# Altium footprint library ZLM.PcbLib: 58 footprints (part 4 of 4)
Each footprint in its own frame and in the unit in brackets; x right, y up, seen from the top. Pads: shape width x height; smd on the part's side, far side on the other; paste and mask are expansions set on the pad; w line width, h text height; cw(c..) or ccw(c..) is an arc to the next point about the centre after c.
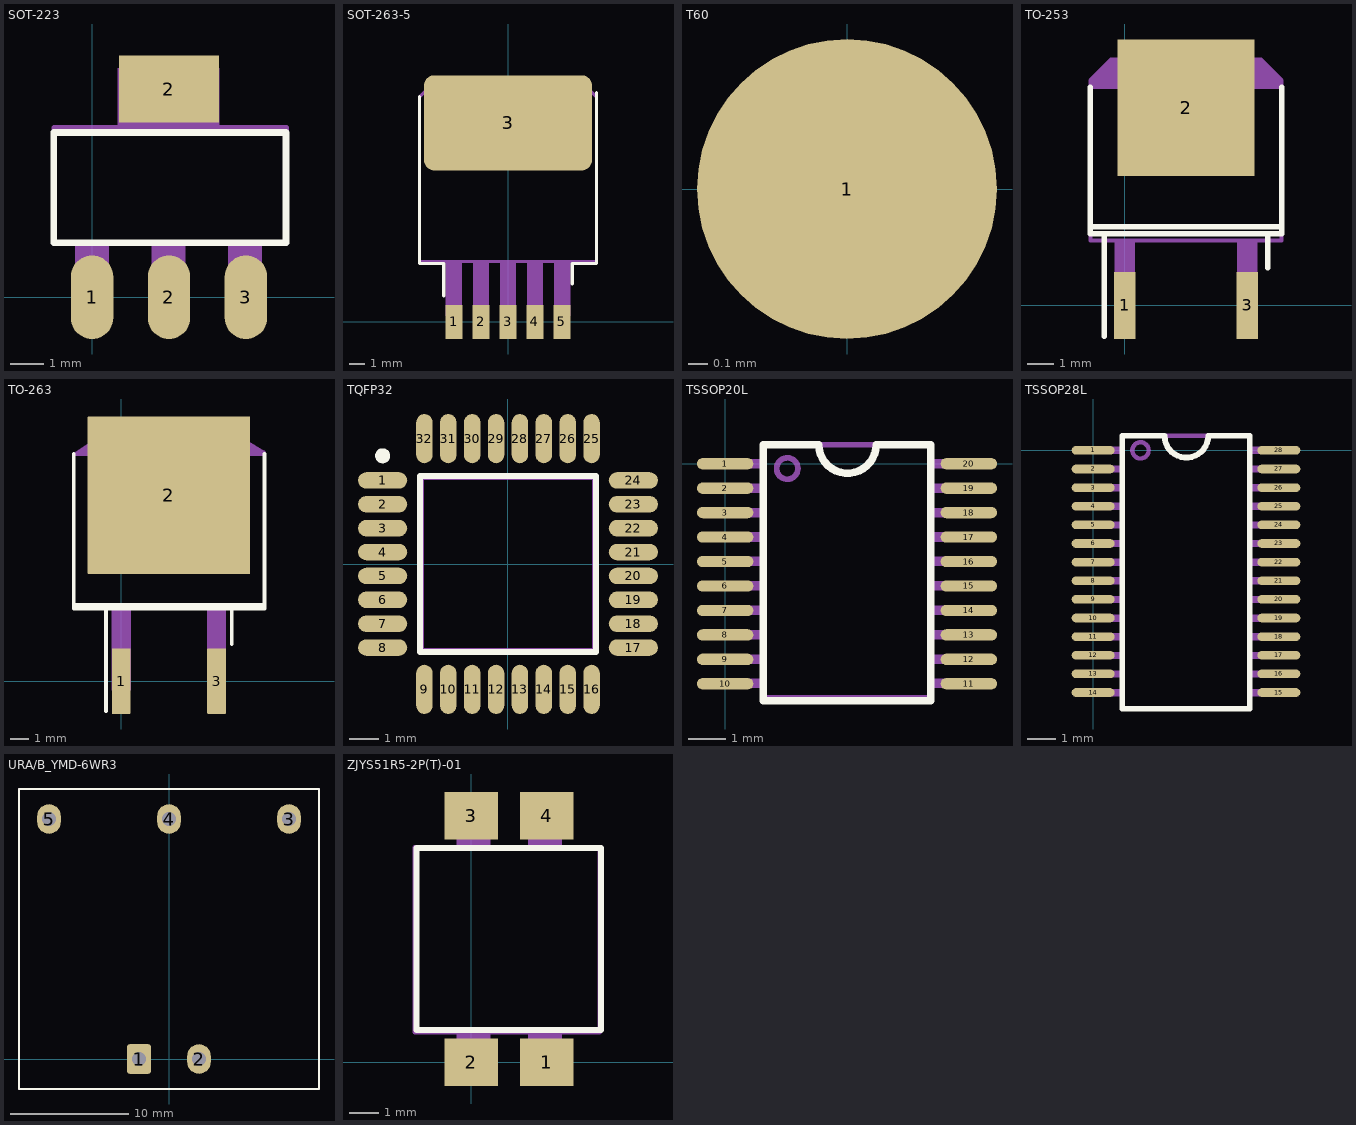
[diagram p3: the footprints below, top view; thin cyan lines are the x and y axes]

## SOT-223 [mm]
pads (4):
  oval 1.27x2.5 smd: 1(0,0) 2(2.3,0) 3(4.6,0)
  rect 3x2 smd: 2(2.3,6.223)
Top Overlay:
  lines w0.203: -1.15,1.626 5.8,1.626 5.8,4.928 -1.15,4.928 -1.15,1.626
Mechanical 5:
  rectangle: 0.762,5.08 3.81,6.858
  rectangle: 4.064,-0.254 5.08,1.626
  rectangle: 1.778,-0.254 2.794,1.626
  rectangle: -0.508,-0.254 0.508,1.626
  lines w0.152: -1.143,1.651 -1.143,5.08 5.817,5.08 5.817,1.651 5.791,1.626 -1.118,1.626 -1.143,1.651
  text ".Designator" at -0.508,2.794 h0.76

## SOT-263-5 [mm]
height 0.55
pads (6):
  rect 1.07x2.16 smd: 1(-3.4,0) 2(-1.7,0) 3(0,0) 4(1.7,0) 5(3.4,0)
  rrect20% 10.6x6 smd: 3(0,12.572)
Top Overlay:
  lines w0.203: -5.588,14.224 -5.588,3.683 -4.064,3.683 -4.064,1.651 ; 4.064,2.413 4.064,3.683 5.588,3.683 5.588,14.478
Mechanical 5:
  rectangle: -3.937,0.381 -2.921,3.81
  rectangle: -2.222,0.381 -1.206,3.81
  rectangle: -0.508,0.381 0.508,3.81
  rectangle: 1.206,0.381 2.222,3.81
  rectangle: 2.921,0.381 3.937,3.81
  lines w0.203: -5.588,3.81 -5.588,14.224 -4.572,15.24 4.572,15.24 5.588,14.224 5.588,3.81 -5.588,3.81
  text ".Designator" at -4.064,7.874 h1.52

## T60 [mil]
pads (1):
  round 60 smd: 1(0,0)

## TO-253 [mm]
pads (3):
  rect 0.8x2.5 smd: 1(0,0) 3(4.572,0)
  rect 5.1x5.08 smd: 2(2.286,7.366)
Top Overlay:
  lines w0.203: -1.27,2.921 5.842,2.921 ; -1.27,8.128 -1.27,2.667 5.842,2.667 5.842,8.128 ; -0.762,-1.143 -0.762,2.667 ; 5.334,1.397 5.334,2.667
Mechanical 5:
  rectangle: 4.191,-0.381 4.953,2.413
  rectangle: -0.381,-0.381 0.381,2.413
  region: -1.27,8.128 -1.27,8.382 -0.508,9.144 5.08,9.144 5.842,8.382 5.842,8.128
  lines w0.152: -1.27,8.128 -1.27,2.413 5.842,2.413 5.842,8.128 ; -1.27,8.128 5.842,8.128 ; -1.27,8.128 -1.27,8.382 -0.508,9.144 5.08,9.144 5.842,8.382 5.842,8.128
  text ".Designator" at -0.254,5.461 h0.76

## TO-263 [mm]
pads (3):
  rrect10% 1x3.5 smd: 1(0,0) 3(5.08,0)
  rrect1% 8.65x8.4 smd paste-4.2: 2(2.54,9.9)
Top Overlay:
  lines w0.203: -2.531,4.047 7.629,4.047 ; -2.531,12.1 -2.531,3.869 ; -0.81,-1.6 -0.81,3.869 -2.531,3.869 ; 5.89,1.975 5.89,3.869 7.611,3.869 ; 7.629,12.1 7.629,3.869 -2.531,3.869
Top Paste:
  region: 3.34,9.8 3.34,8.72 4.3,8.72 4.3,9.8
  region: 3.34,8.52 3.34,7.44 4.3,7.44 4.3,8.52
  region: 3.34,7.24 3.34,6.16 4.3,6.16 4.3,7.24
  region: 4.3,11.28 4.3,12.36 3.34,12.36 3.34,11.28
  region: 4.3,10 4.3,11.08 3.34,11.08 3.34,10
  region: 5.58,10 5.58,11.08 4.62,11.08 4.62,10
  region: 5.58,11.28 5.58,12.36 4.62,12.36 4.62,11.28
  region: 4.62,7.24 4.62,6.16 5.58,6.16 5.58,7.24
  region: 4.62,8.52 4.62,7.44 5.58,7.44 5.58,8.52
  region: 4.62,9.8 4.62,8.72 5.58,8.72 5.58,9.8
  region: 5.9,9.8 5.9,8.72 6.86,8.72 6.86,9.8
  region: 5.9,8.52 5.9,7.44 6.86,7.44 6.86,8.52
  region: 5.9,7.24 5.9,6.16 6.86,6.16 6.86,7.24
  region: 6.86,11.28 6.86,12.36 5.9,12.36 5.9,11.28
  region: 6.86,10 6.86,11.08 5.9,11.08 5.9,10
  region: -0.82,10 -0.82,11.08 -1.78,11.08 -1.78,10
  region: -0.82,11.28 -0.82,12.36 -1.78,12.36 -1.78,11.28
  region: -1.78,7.24 -1.78,6.16 -0.82,6.16 -0.82,7.24
  region: -1.78,8.52 -1.78,7.44 -0.82,7.44 -0.82,8.52
  region: -1.78,9.8 -1.78,8.72 -0.82,8.72 -0.82,9.8
  region: -0.5,9.8 -0.5,8.72 0.46,8.72 0.46,9.8
  region: -0.5,8.52 -0.5,7.44 0.46,7.44 0.46,8.52
  region: -0.5,7.24 -0.5,6.16 0.46,6.16 0.46,7.24
  region: 0.46,11.28 0.46,12.36 -0.5,12.36 -0.5,11.28
  region: 0.46,10 0.46,11.08 -0.5,11.08 -0.5,10
  region: 1.74,10 1.74,11.08 0.78,11.08 0.78,10
  region: 1.74,11.28 1.74,12.36 0.78,12.36 0.78,11.28
  region: 0.78,7.24 0.78,6.16 1.74,6.16 1.74,7.24
  region: 0.78,8.52 0.78,7.44 1.74,7.44 1.74,8.52
  region: 0.78,9.8 0.78,8.72 1.74,8.72 1.74,9.8
  region: 2.06,9.8 2.06,8.72 3.02,8.72 3.02,9.8
  region: 2.06,8.52 2.06,7.44 3.02,7.44 3.02,8.52
  region: 2.06,7.24 2.06,6.16 3.02,6.16 3.02,7.24
  region: 3.02,11.28 3.02,12.36 2.06,12.36 2.06,11.28
  region: 3.02,10 3.02,11.08 2.06,11.08 2.06,10
Mechanical 5:
  rectangle: -0.508,-0.508 0.508,3.937
  rectangle: 4.572,-0.508 5.588,3.937
  region: -2.54,12.065 -0.635,13.335 5.715,13.335 7.62,12.192 7.62,12.065
  lines w0.152: 7.62,12.065 -2.54,12.065 ; -2.54,12.065 -2.54,3.937 7.62,3.937 7.62,12.192 5.715,13.335 -0.635,13.335 -2.54,12.065
  text ".Designator" at -1.016,7.874 h0.76

## TQFP32 [mm] "Thin QFP, 32-Leads, Body 7x7mm, Pitch 0.8mm, IPC Medium Density"
height 1.2
pads (32):
  oval 1.65x0.55 smd: 1(-4.2,2.8) 2(-4.2,2) 3(-4.2,1.2) 4(-4.2,0.4) 5(-4.2,-0.4) 6(-4.2,-1.2) 7(-4.2,-2) 8(-4.2,-2.8) 17(4.2,-2.8) 18(4.2,-2) 19(4.2,-1.2) 20(4.2,-0.4) 21(4.2,0.4) 22(4.2,1.2) 23(4.2,2) 24(4.2,2.8)
  oval 0.55x1.65 smd: 9(-2.8,-4.2) 10(-2,-4.2) 11(-1.2,-4.2) 12(-0.4,-4.2) 13(0.4,-4.2) 14(1.2,-4.2) 15(2,-4.2) 16(2.8,-4.2) 25(2.8,4.2) 26(2,4.2) 27(1.2,4.2) 28(0.4,4.2) 29(-0.4,4.2) 30(-1.2,4.2) 31(-2,4.2) 32(-2.8,4.2)
Top Overlay:
  circle w0.25: c-4.2,3.625 r0.125
  lines w0.2: -2.95,-2.95 -2.95,2.95 2.95,2.95 2.95,-2.95 -2.95,-2.95
Mechanical 5:
  lines w0.203: -2.921,-2.921 -2.921,2.921 2.921,2.921 2.921,-2.921 -2.921,-2.921
  text ".Designator" at -2.413,-0.508 h1.02

## TSSOP20L [mm]
pads (20):
  oval 1.5x0.3 smd: 1(0,0) 2(0,-0.65) 3(0,-1.3) 4(0,-1.95) 5(0,-2.6) 6(0,-3.25) 7(0,-3.9) 8(0,-4.55) 9(0,-5.2) 10(0,-5.85) 11(6.477,-5.85) 12(6.477,-5.2) 13(6.477,-4.55) 14(6.477,-3.9) 15(6.477,-3.25) 16(6.477,-2.6) 17(6.477,-1.95) 18(6.477,-1.3) 19(6.477,-0.65) 20(6.477,0)
Top Overlay:
  lines w0.203: 1.016,-6.299 5.461,-6.299 5.461,0.508 4.012,0.508 cw(c3.251,0.508) 2.49,0.508 1.016,0.508 1.016,-6.299
Mechanical 5:
  circle w0.152: c1.651,-0.127 r0.284
  rectangle: 5.537,-0.127 6.553,0.127
  rectangle: 5.537,-0.776 6.553,-0.522
  rectangle: 5.537,-1.425 6.553,-1.171
  rectangle: 5.537,-2.074 6.553,-1.82
  rectangle: 5.537,-2.723 6.553,-2.469
  rectangle: 5.537,-3.373 6.553,-3.119
  rectangle: 5.537,-4.022 6.553,-3.768
  rectangle: 5.537,-4.671 6.553,-4.417
  rectangle: 5.537,-5.32 6.553,-5.066
  rectangle: 5.537,-5.969 6.553,-5.715
  rectangle: 0,-5.969 1.016,-5.715
  rectangle: 0,-5.32 1.016,-5.066
  rectangle: 0,-4.671 1.016,-4.417
  rectangle: 0,-4.022 1.016,-3.768
  rectangle: 0,-3.373 1.016,-3.119
  rectangle: 0,-2.723 1.016,-2.469
  rectangle: 0,-2.074 1.016,-1.82
  rectangle: 0,-1.425 1.016,-1.171
  rectangle: 0,-0.776 1.016,-0.522
  rectangle: 0,-0.127 1.016,0.127
  lines w0.152: 1.016,-6.223 5.461,-6.223 5.461,0.508 1.016,0.508 1.016,-6.223
  text ".Designator" at 1.651,-2.794 h0.76

## TSSOP28L [mm]
pads (28):
  oval 1.5x0.3 smd: 1(0,0) 2(0,-0.65) 3(0,-1.3) 4(0,-1.95) 5(0,-2.6) 6(0,-3.25) 7(0,-3.9) 8(0,-4.55) 9(0,-5.2) 10(0,-5.85) 11(0,-6.5) 12(0,-7.15) 13(0,-7.8) 14(0,-8.45) 15(6.477,-8.45) 16(6.477,-7.8) 17(6.477,-7.15) 18(6.477,-6.5) 19(6.477,-5.85) 20(6.477,-5.2) 21(6.477,-4.55) 22(6.477,-3.9) 23(6.477,-3.25) 24(6.477,-2.6) 25(6.477,-1.95) 26(6.477,-1.3) 27(6.477,-0.65) 28(6.477,0)
Top Overlay:
  lines w0.203: 1.016,-9.017 5.461,-9.017 5.461,0.508 4.012,0.508 cw(c3.251,0.508) 2.49,0.508 1.016,0.508 1.016,-9.017
Mechanical 5:
  circle w0.152: c1.651,0 r0.284
  rectangle: 0,-4.031 1.016,-3.777
  rectangle: 0,-3.38 1.016,-3.126
  rectangle: 0,-2.079 1.016,-1.825
  rectangle: 0,-2.73 1.016,-2.476
  rectangle: 0,-1.428 1.016,-1.174
  rectangle: 0,-0.778 1.016,-0.524
  rectangle: 0,-0.127 1.016,0.127
  rectangle: 0,-8.585 1.016,-8.331
  rectangle: 0,-7.935 1.016,-7.681
  rectangle: 0,-6.633 1.016,-6.379
  rectangle: 0,-7.284 1.016,-7.03
  rectangle: 0,-5.983 1.016,-5.729
  rectangle: 0,-4.681 1.016,-4.427
  rectangle: 0,-5.332 1.016,-5.078
  rectangle: 5.512,-5.332 6.528,-5.078
  rectangle: 5.512,-4.681 6.528,-4.427
  rectangle: 5.512,-5.983 6.528,-5.729
  rectangle: 5.512,-7.284 6.528,-7.03
  rectangle: 5.512,-6.633 6.528,-6.379
  rectangle: 5.512,-7.935 6.528,-7.681
  rectangle: 5.512,-8.585 6.528,-8.331
  rectangle: 5.512,-0.127 6.528,0.127
  rectangle: 5.512,-0.778 6.528,-0.524
  rectangle: 5.512,-1.428 6.528,-1.174
  rectangle: 5.512,-2.73 6.528,-2.476
  rectangle: 5.512,-2.079 6.528,-1.825
  rectangle: 5.512,-3.38 6.528,-3.126
  rectangle: 5.512,-4.031 6.528,-3.777
  lines w0.152: 1.016,-9.017 1.016,0.508 5.461,0.508 5.461,-8.89 5.461,-9.017 1.016,-9.017
  text ".Designator" at 1.524,-2.794 h0.76

## URA/B_YMD-6WR3 [mm]
pads (5):
  rrect20% 2x2.5 hole 1.2: 1(-2.54,0)
  oval 2x2.5 hole 1.2: 2(2.54,0) 3(10.16,20.32) 4(0,20.32) 5(-10.16,20.32)
Top Overlay:
  lines w0.203: -12.7,-2.54 12.7,-2.54 12.7,22.86 -12.7,22.86 -12.7,-2.54
Mechanical 5:
  lines w0.152: -12.7,-2.54 12.7,-2.54 12.7,22.86 -12.7,22.86 -12.7,-2.54
  text ".Designator" at -2.794,10.033 h0.76

## ZJYS51R5-2P(T)-01 [mm]
pads (4):
  rect 1.8x1.6 smd: 1(2.54,0) 2(0,0) 3(0,8.3) 4(2.54,8.3)
Top Overlay:
  lines w0.203: -1.854,1.092 -1.854,7.214 4.369,7.214 4.369,1.092 -1.854,1.092
Mechanical 5:
  rectangle: -0.508,7.239 0.635,8.89
  rectangle: 1.905,7.239 3.048,8.89
  rectangle: 1.905,-0.635 3.048,1.016
  rectangle: -0.508,-0.635 0.635,1.016
  lines w0.152: -1.905,1.016 4.318,1.016 4.318,7.239 -1.905,7.239 -1.905,1.016
  text ".Designator" at -0.762,3.683 h0.76